# EAGLE library part STM32F4-100_PIN (library p.peter-ics)
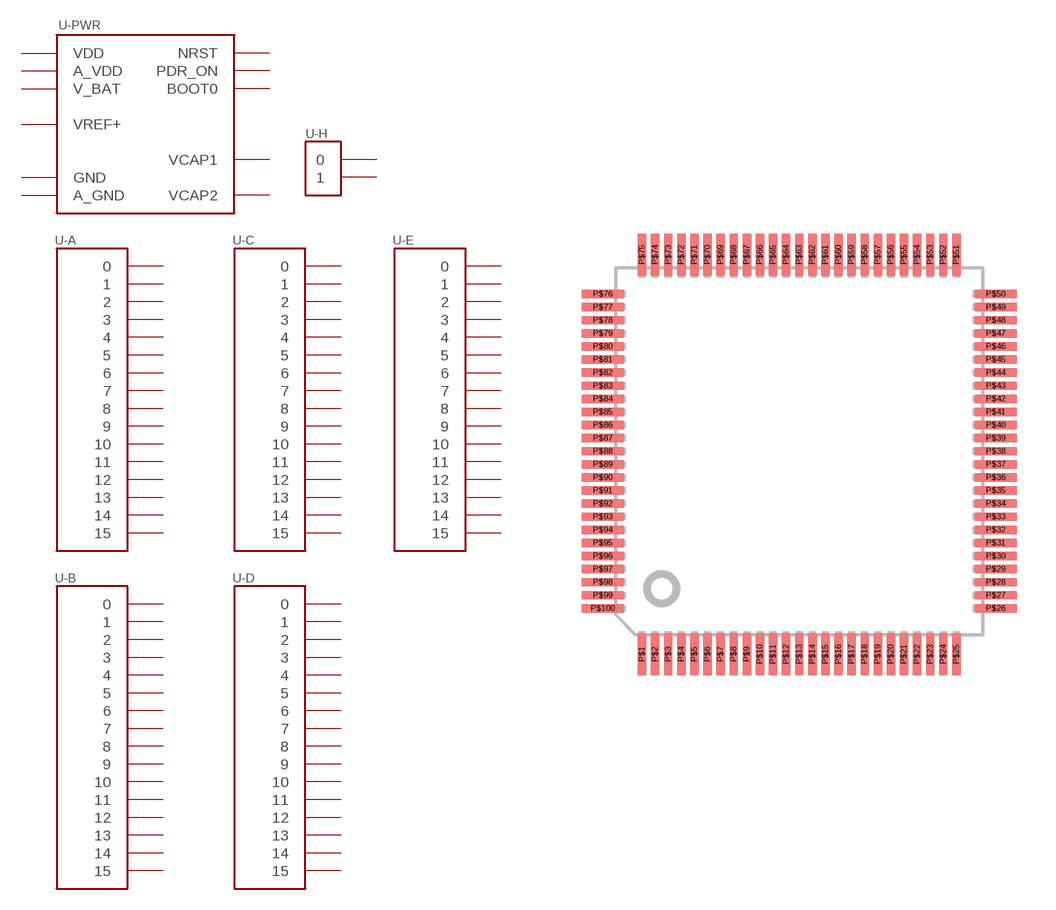
[diagram p13: symbol with the pads of LQFP100; footprint LQFP100]

Designator prefix -; gates -PWR=STM32F4-PWR -H=STM32-PORT_2 -A=STM32-PORT -B=STM32-PORT -C=STM32-PORT -D=STM32-PORT -E=STM32-PORT

## STM32F4-100_PIN  [LQFP100]
P$1  -E:2
P$2  -E:3
P$3  -E:4
P$4  -E:5
P$5  -E:6
P$6  -PWR:V_BAT  pwr
P$7  -C:13
P$8  -C:14
P$9  -C:15
P$10  -PWR:GND  pwr
P$11  -PWR:VDD  pwr
P$12  -H:0
P$13  -H:1
P$14  -PWR:NRST
P$15  -C:0
P$16  -C:1
P$17  -C:2
P$18  -C:3
P$19  -PWR:VDD  pwr
P$20  -PWR:A_GND  pwr
P$21  -PWR:VREF+
P$22  -PWR:A_VDD  pwr
P$23  -A:0
P$24  -A:1
P$25  -A:2
P$26  -A:3
P$27  -PWR:GND  pwr
P$28  -PWR:VDD  pwr
P$29  -A:4
P$30  -A:5
P$31  -A:6
P$32  -A:7
P$33  -C:4
P$34  -C:5
P$35  -B:0
P$36  -B:1
P$37  -B:2
P$38  -E:7
P$39  -E:8
P$40  -E:9
P$41  -E:10
P$42  -E:11
P$43  -E:12
P$44  -E:13
P$45  -E:14
P$46  -E:15
P$47  -B:10
P$48  -B:11
P$49  -PWR:VCAP1
P$50  -PWR:VDD  pwr
P$51  -B:12
P$52  -B:13
P$53  -B:14
P$54  -B:15
P$55  -D:8
P$56  -D:9
P$57  -D:10
P$58  -D:11
P$59  -D:12
P$60  -D:13
P$61  -D:14
P$62  -D:15
P$63  -C:6
P$64  -C:7
P$65  -C:8
P$66  -C:9
P$67  -A:8
P$68  -A:9
P$69  -A:10
P$70  -A:11
P$71  -A:12
P$72  -A:13
P$73  -PWR:VCAP2
P$74  -PWR:GND  pwr
P$75  -PWR:VDD  pwr
P$76  -A:14
P$77  -A:15
P$78  -C:10
P$79  -C:11
P$80  -C:12
P$81  -D:0
P$82  -D:1
P$83  -D:2
P$84  -D:3
P$85  -D:4
P$86  -D:5
P$87  -D:6
P$88  -D:7
P$89  -B:3
P$90  -B:4
P$91  -B:5
P$92  -B:6
P$93  -B:7
P$94  -PWR:BOOT0
P$95  -B:8
P$96  -B:9
P$97  -E:0
P$98  -E:1
P$99  -PWR:PDR_ON
P$100  -PWR:VDD  pwr

## Footprint LQFP100 (pad centres in mm)
smd 0.32 x 1.6: P$1 -6,-7.75; P$2 -5.5,-7.75; P$3 -5,-7.75; P$4 -4.5,-7.75; P$5 -4,-7.75; P$6 -3.5,-7.75; P$7 -3,-7.75; P$8 -2.5,-7.75; P$9 -2,-7.75; P$10 -1.5,-7.75; P$11 -1,-7.75; P$12 -0.5,-7.75; P$13 0,-7.75; P$14 0.5,-7.75; P$15 1,-7.75; P$16 1.5,-7.75; P$17 2,-7.75; P$18 2.5,-7.75; P$19 3,-7.75; P$20 3.5,-7.75; P$21 4,-7.75; P$22 4.5,-7.75; P$23 5,-7.75; P$24 5.5,-7.75; P$25 6,-7.75; P$51 6,7.5; P$52 5.5,7.5; P$53 5,7.5; P$54 4.5,7.5; P$55 4,7.5; P$56 3.5,7.5; P$57 3,7.5; P$58 2.5,7.5; P$59 2,7.5; P$60 1.5,7.5; P$61 1,7.5; P$62 0.5,7.5; P$63 0,7.5; P$64 -0.5,7.5; P$65 -1,7.5; P$66 -1.5,7.5; P$67 -2,7.5; P$68 -2.5,7.5; P$69 -3,7.5; P$70 -3.5,7.5; P$71 -4,7.5; P$72 -4.5,7.5; P$73 -5,7.5; P$74 -5.5,7.5; P$75 -6,7.5
smd 1.6 x 0.32: P$26 7.5,-6; P$27 7.5,-5.5; P$28 7.5,-5; P$29 7.5,-4.5; P$30 7.5,-4; P$31 7.5,-3.5; P$32 7.5,-3; P$33 7.5,-2.5; P$34 7.5,-2; P$35 7.5,-1.5; P$36 7.5,-1; P$37 7.5,-0.5; P$38 7.5,0; P$39 7.5,0.5; P$40 7.5,1; P$41 7.5,1.5; P$42 7.5,2; P$43 7.5,2.5; P$44 7.5,3; P$45 7.5,3.5; P$46 7.5,4; P$47 7.5,4.5; P$48 7.5,5; P$49 7.5,5.5; P$50 7.5,6; P$76 -7.5,6; P$77 -7.5,5.5; P$78 -7.5,5; P$79 -7.5,4.5; P$80 -7.5,4; P$81 -7.5,3.5; P$82 -7.5,3; P$83 -7.5,2.5; P$84 -7.5,2; P$85 -7.5,1.5; P$86 -7.5,1; P$87 -7.5,0.5; P$88 -7.5,0; P$89 -7.5,-0.5; P$90 -7.5,-1; P$91 -7.5,-1.5; P$92 -7.5,-2; P$93 -7.5,-2.5; P$94 -7.5,-3; P$95 -7.5,-3.5; P$96 -7.5,-4; P$97 -7.5,-4.5; P$98 -7.5,-5; P$99 -7.5,-5.5; P$100 -7.5,-6